# EAGLE library part MIC5320 (library stan)
MIC5320 High Performance Dual 150mA Voltage Regulator Package: NOT VERIFIED
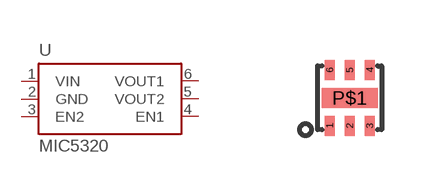
[diagram p7: symbol with the pads of MLF-6; footprint MLF-6]

Designator prefix -

## MIC5320-JGYML  [MLF-6]
1  VIN
2  GND
3  EN2
4  EN1
5  VOUT2
6  VOUT1

## Footprint MLF-6 (pad centres in mm)
smd 0.25 x 0.5: 1 -0.5,-0.7; 2 0,-0.7; 3 0.5,-0.7; 4 0.5,0.7; 5 0,0.7; 6 -0.5,0.7
smd 1.4 x 0.5: P$1 0,0